# Altium schematic symbol library MS-Electronic.SchLib: 364 symbols (part 3 of 4)
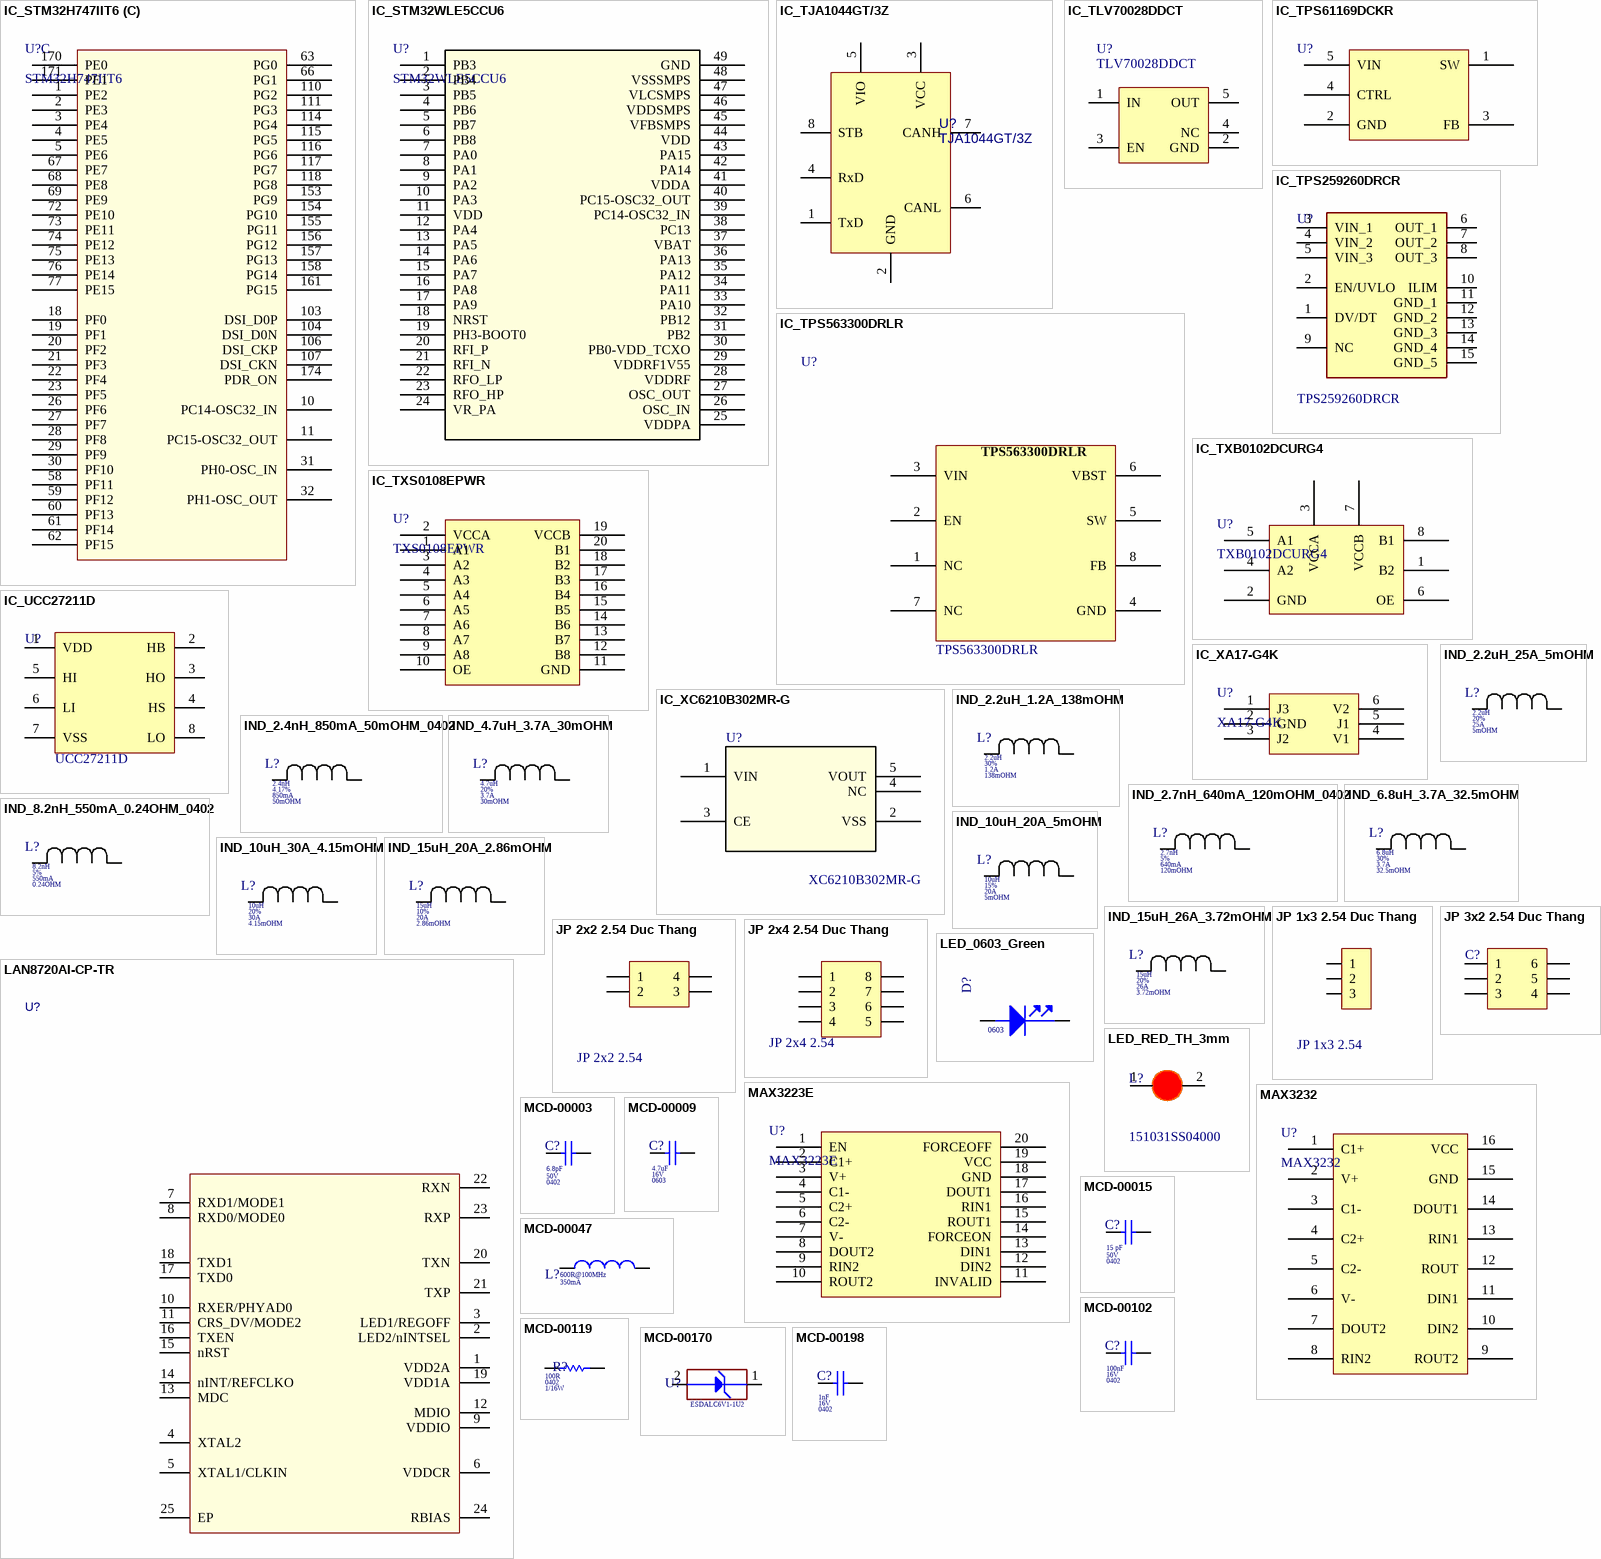
[diagram p13: symbols IC_STM32H747IIT6 to MCD-00198]

## LAN8720AI-CP-TR
designator U?  (value not drawn)
2/2 Transceiver Full MII, RMII 24-SQFN (4x4); Manufacturer: SMSC; Manufacturer Part Number: LAN8720AI-CP-TR; LCSC Part Number: C17146; Package: QFN-24_4x4x05P; ComponentLink1Description: CXT; ComponentLink1URL: https://linhkien.cxtvn.com/1660-lan8720ai-cp-tr-ic-transceiver-full-22-24sqfn.html; ComponentLink2Description: DIGIKEY; ComponentLink2URL: https://www.digikey.bg/en/products/detail/microchip-technology/LAN8720AI-CP-TR/3872110; Sort: TRANSCEIVER
footprint IC_LAN8720AI-CP-TR
pins: 1 VDD2A, 2 LED2/nINTSEL, 3 LED1/REGOFF, 4 XTAL2, 5 XTAL1/CLKIN, 6 VDDCR, 7 RXD1/MODE1, 8 RXD0/MODE0, 9 VDDIO, 10 RXER/PHYAD0, 11 CRS_DV/MODE2, 12 MDIO, 13 MDC, 14 nINT/REFCLKO, 15 nRST, 16 TXEN, 17 TXD0, 18 TXD1, 19 VDD1A, 20 TXN, 21 TXP, 22 RXN, 23 RXP, 24 RBIAS, 25 EP

## LED_0603_Green
designator D?, comment Package: 0603  (hidden comment: 150060GS75000)
LED YELLOW/GREEN CLEAR 0603 SMD; Manufacturer: Würth Elektronik; Manufacturer Part Number: 150060GS75000; ComponentLink1Description: BLK; ComponentLink1URL: https://banlinhkien.com/led-0603-mau-xanh-la-green-10-chiec-p22456389.html; ComponentLink2Description: DIGIKEY; ComponentLink2URL: https://www.digikey.bg/en/products/detail/w%C3%BCrth-elektronik/150060GS75000/4489898
footprint LED_0603_GREEN
pins: 1 cathode, 2 ANODE

## LED_RED_TH_3mm
designator L?, comment 151031SS04000
Red 635nm LED Indication - Discrete 2V Radial; Manufacturer: Würth Elektronik; Current - Test: 20mA; Ten_Linh_Kien: Led 3MM Phủ Đỏ (10c); Part Number: 151031SS04000; Voltage - Forward: 2V; Package: 3mm; ComponentLink1Description: New link; ComponentLink1URL: *; ComponentLink2Description: DIGIKEY; ComponentLink2URL: https://www.digikey.bg/en/products/detail/w%C3%BCrth-elektronik/151031SS04000/4489979
footprint LED-3MM-RED
pins: 1 A, 2 K

## MAX3223E
designator U?
3- to 5.5-V dual channel 500kbps RS-232 line driver/receiver with +/-15-kV IEC-ESD protection; Sort: IC TRANSCEIVER; Package: SOIC; ComponentLink1Description: DIGIKEY; ComponentLink1URL: https://www.digikey.bg/en/products/detail/texas-instruments/MAX3223EIPWR/1120535
footprint MAX3223E_SOIC
pins: 1 EN, 2 C1+, 3 V+, 4 C1-, 5 C2+, 6 C2-, 7 V-, 8 DOUT2, 9 RIN2, 10 ROUT2, 11 INVALID, 12 DIN2, 13 DIN1, 14 FORCEON, 15 ROUT1, 16 RIN1, 17 DOUT1, 18 GND, 19 VCC, 20 FORCEOFF

## MAX3232
designator U?
3-V to 5.5-V Multichannel RS-232 Line Driver and Receiver / With ±15-kV ESD Protection; Sort: IC TRANSCEIVER; ComponentLink1Description: New link; ComponentLink1URL: https://banlinhkien.com/max232-sop16-p6648577.html; Package: SOP16
footprint MAX232_SOP16
pins: 1 C1+, 2 V+, 3 C1-, 4 C2+, 5 C2-, 6 V-, 7 DOUT2, 8 RIN2, 9 ROUT2, 10 DIN2, 11 DIN1, 12 ROUT, 13 RIN1, 14 DOUT1, 15 GND, 16 VCC

## MCD-00003
designator C?, comment value 6.8pF  Package: 0402  Voltage: 50V  (hidden comment: Capacitor)
Capacitor, MLCC, 6.8pF, 50V, NPO, +-0.1pF, 0402, T=0.5mm; Manufacturer_Part_Number: GRM1555C1H6R8BA01; Manufacturer: MURATA
footprint CAPC1005X06N (Chip Capacitor, 2-Leads, Body 1.00x0.50x0.60mm (0402))
pins: 1, 2

## MCD-00009
designator C?  value 4.7uF  Package: 0603  Voltage: 16V
Capacitor, MLCC, 4.7uF, 16V, X5R, 10%, 0603, T=0.8mm; Manufacturer_Part_Number: CC0603KRX5R7BB475; Manufacturer: YAGEO
footprint CAPC1608X09N (Chip Capacitor, 2-Leads, Body 1.60x0.80x0.90mm (0603))
pins: 1, 2

## MCD-00015
designator C?  value 15 pF  Package: 0402  Voltage: 50V
Condensateurs céramique multicouches MLCC - CMS 0402 3.3pF 50Volts C0G +/-0.05pF; Manufacturer_Part_Number: GJM1555C1H150JB01; Manufacturer: MURATA
footprint CAPC1005X06N (Chip Capacitor, 2-Leads, Body 1.00x0.50x0.60mm (0402))
pins: 1, 2

## MCD-00047
designator L?  value 600R@100MHz  L: 350mA
SMD Chip ferrite bead, 600R@100MHz +/-25%, 350mA, 500mohm DC, 0603, T=0.8mm; Manufacturer_Part_Number: FCM1608KF-601T03; Manufacturer: TAI-TECH
footprint INDC1608X95N (Chip Inductor, 2-Leads, Body 1.75x0.95x0.95mm (0603))
pins: 1, 2

## MCD-00102
designator C?  value 100nF  Voltage: 16V  Package: 0402
Capacitor, MLCC, 100nF, 16V, X7R, 10%, 0402, T=0,5mm; Manufacturer_Part_Number: CC0402KRX7R7BB104; Manufacturer: YAGEO
footprint CAPC1005X06N (Chip Capacitor, 2-Leads, Body 1.00x0.50x0.60mm (0402))
pins: 1, 2

## MCD-00119
designator R?  value 100R  Power: 1/16W  Package: 0402
Resistor,100R,0402,1%,1/16W; Manufacturer_Part_Number: RC0402FR-07100RL; Manufacturer: YAGEO
footprint RESC1005X04N (Chip Resistor, 2-Leads, Body 1.00x0.50mm (0402))
pins: 1, 2

## MCD-00170
designator U?  Manufacturer_Part_Number: ESDALC6V1-1U2
ESD protection 6V1; Manufacturer: STMICROELECTRONICS
footprint DIOM0603X03N (Footprint not found)
pins: 1 IO1, 2 GND

## MCD-00198
designator C?  value 1nF  Voltage: 16V  Package: 0402
Capacitor, MLCC, 1nF, 16V, X7R, 10%, 0402, T=0.5mm; Manufacturer_Part_Number: CC0402KRX7R7BB102; Manufacturer: YAGEO
footprint CAPC1005X06N (Chip Capacitor, 2-Leads, Body 1.00x0.50x0.60mm (0402))
pins: 1, 2

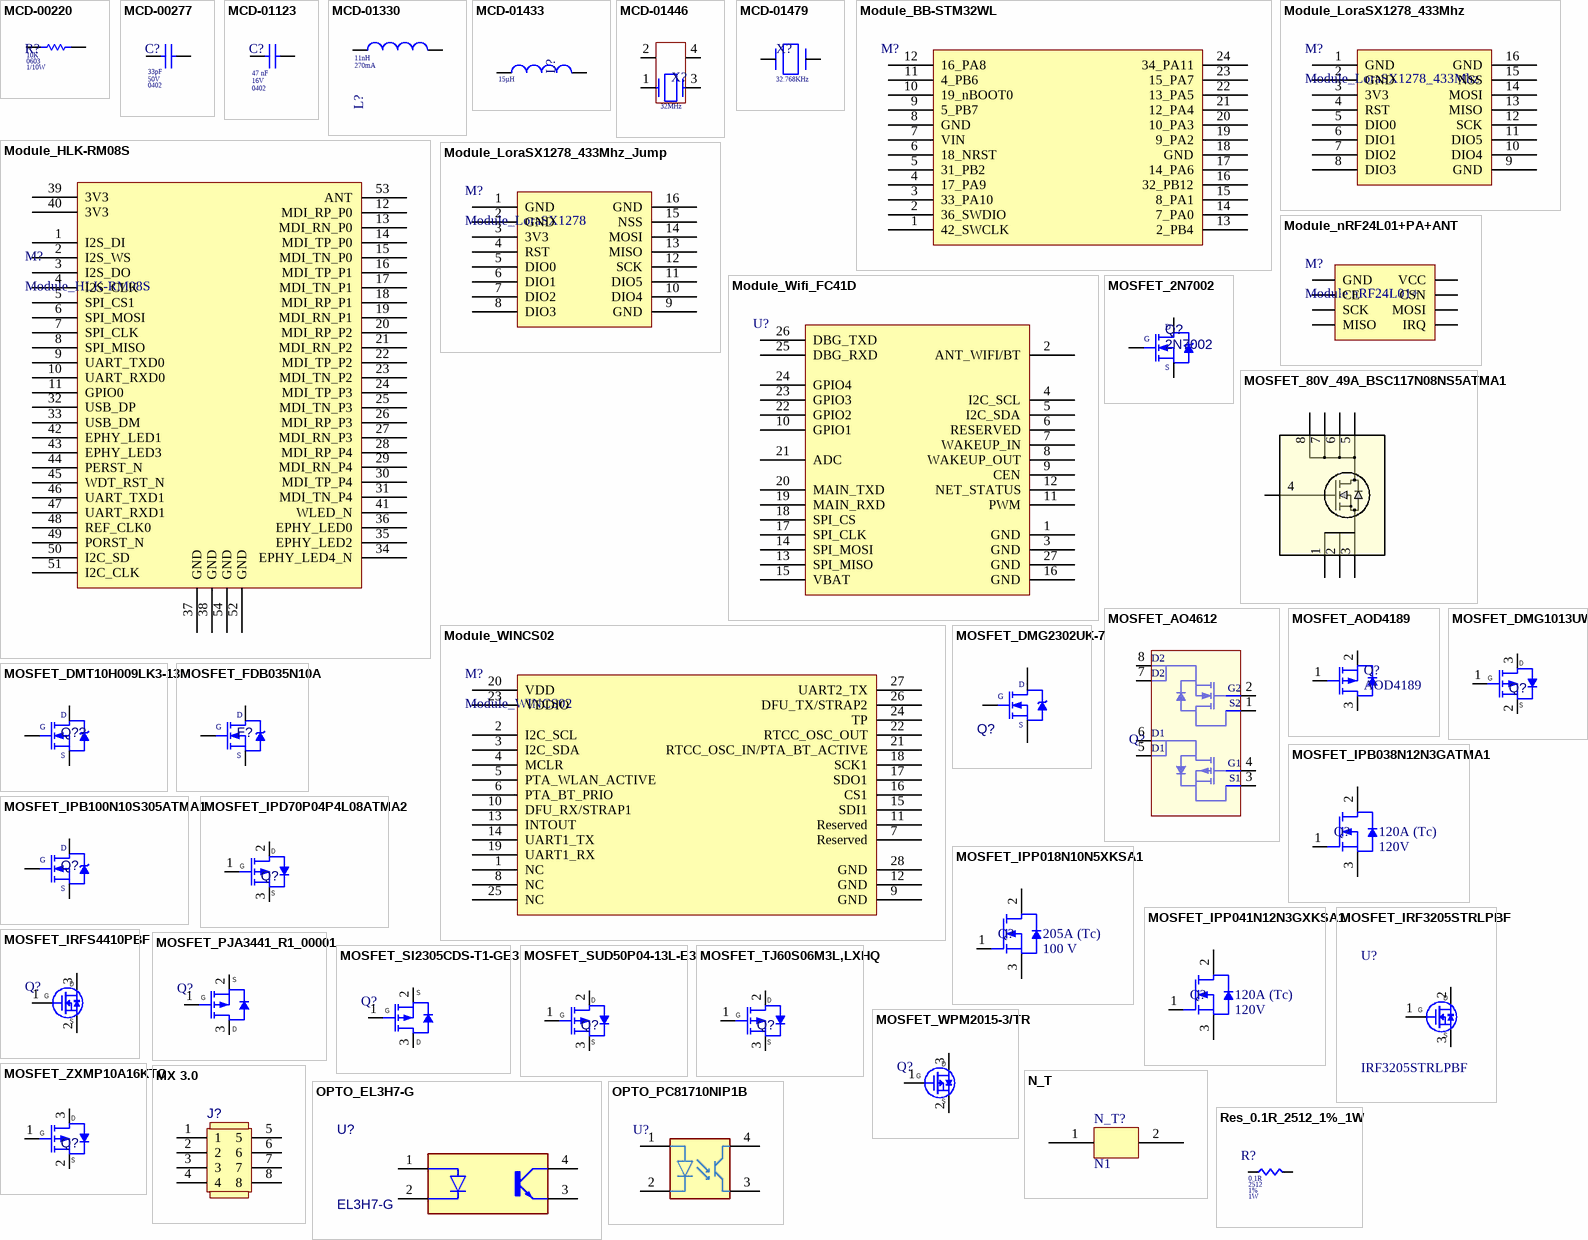
[diagram p7: symbols MCD-00220 to Res_0.1R_2512_1%_1W]

## MCD-00220
designator R?  value 10K  Power: 1/10W  Package: 0603
Resistor,10K,0603,1%,1/10W; Manufacturer_Part_Number: RC0603FR-0710KL; Manufacturer: YAGEO
footprint RESC1608X05N (Chip Resistor, 2-Leads, Body 1.60x0.80mm (0603))
pins: 1, 2

## MCD-00277
designator C?  value 33pF  Voltage: 50V  Package: 0402
Capacitor, MLCC, 33pF, 50V, NPO, 2%, 0402, T=0,5mm; Manufacturer_Part_Number: GRM1555C1H330GA01; Manufacturer: MURATA
footprint CAPC1005X06N (Chip Capacitor, 2-Leads, Body 1.00x0.50x0.60mm (0402))
pins: 1, 2

## MCD-01123
designator C?  value 47 nF  Package: 0402  Voltage: 16V
Capacitor, MLCC,47nF, 16V, X7R, 10%, 0402, T=0.5mm; Manufacturer_Part_Number: GCM155R71E473KA55; Manufacturer: MURATA
footprint CAPC1005X06N (Chip Capacitor, 2-Leads, Body 1.00x0.50x0.60mm (0402))
pins: 1, 2

## MCD-01330
designator L?  value 11nH  L: 270mA
Inductor, 11 nH, +-0.1nH, 270mA, 0402; Manufacturer_Part_Number: LQW15AN11NG00D; Manufacturer: MURATA
footprint IND_MURATA_LQW15A (Inductor 2-Leads,Body 1.10x0.70x0.60mm(max))
pins: 1, 2

## MCD-01433
designator L?, comment value 15µH  (hidden comment: MLZ2012M150W)
MLZ2012 Multilayer Shielded Inductor 15µH, ±5%; Manufacturer: TDK; Manufacturer_Part_Number: MLZ2012M150W
footprint INDC2012X13N (Chip Inductor, 2-Leads, Body 2.0x1.2x1.3 (0805))
pins: 1, 2

## MCD-01446
designator X?  value 32MHz
Crystal 32 MHz, 8pF, -+10 PPM, R=60Ω, SMD; Manufacturer_Part_Number: NX2016SA 32MHz EXS00A-CS06465; Manufacturer: NDK
footprint OSC_NDK_NX2016SA (Crystal, 4-Leads, Body 2.10x1.61x0.50mm (max), Pitch 1.35x1.05mm)
signal-integrity model Guessed Model (IC Model Details Guessed by Setup Helper)
pins: 1, 2, 3, 4

## MCD-01479
designator X?, comment value 32.768KHz  (hidden comment: XTAL_2_PINS)
Crystal 32.768kHz, 6pF, -+20PPM, R=80K, SMD; Manufacturer_Part_Number: NX2012SA 32.768KHz EXS00A-MU00527; Manufacturer: NDK
footprint OSC_NDK_NX2012SA (Crystal, 2-Leads, Body 2.05x1.20x0.55mm (Tol:-/+0.05))
pins: 1 X1, 2 X2

## Module_BB-STM32WL
designator M?  (value not drawn)
ComponentLink1Description: New link; ComponentLink1URL: https://www.digikey.bg/en/products/detail/olimex-ltd/BB-STM32WL-ANT/21662515?s=N4IgTCBcDaIEJwLQGUAqBZAzGA6gGRAF0BfIA; Datasheet: https://www.olimex.com/Products/IoT/LoRa/BB-STM32WL/resources/BB-STM32WL.pdf
footprint Module_BB-STM32WL-ANT
pins: 1 42_SWCLK, 2 36_SWDIO, 3 33_PA10, 4 17_PA9, 5 31_PB2, 6 18_NRST, 7 VIN, 8 GND, 9 5_PB7, 10 19_nBOOT0, 11 4_PB6, 12 16_PA8, 13 2_PB4, 14 7_PA0, 15 8_PA1, 16 32_PB12, 17 14_PA6, 18 GND, 19 9_PA2, 20 10_PA3, 21 12_PA4, 22 13_PA5, 23 15_PA7, 24 34_PA11

## Module_HLK-RM08S
designator M?
SMD,25.8x17.4mm WiFi Modules ROHS; ComponentLink1Description: New link; ComponentLink1URL: https://www.lcsc.com/product-detail/WiFi-Modules_HI-LINK-HLK-RM08S_C209918.html
footprint MODULE_HLK-RM08S
pins: 1 I2S_DI, 2 I2S_WS, 3 I2S_DO, 4 I2S_CLK, 5 SPI_CS1, 6 SPI_MOSI, 7 SPI_CLK, 8 SPI_MISO, 9 UART_TXD0, 10 UART_RXD0, 11 GPIO0, 12 MDI_RP_P0, 13 MDI_RN_P0, 14 MDI_TP_P0, 15 MDI_TN_P0, 16 MDI_TP_P1, 17 MDI_TN_P1, 18 MDI_RP_P1, 19 MDI_RN_P1, 20 MDI_RP_P2, 21 MDI_RN_P2, 22 MDI_TP_P2, 23 MDI_TN_P2, 24 MDI_TP_P3, 25 MDI_TN_P3, 26 MDI_RP_P3, 27 MDI_RN_P3, 28 MDI_RP_P4, 29 MDI_RN_P4, 30 MDI_TP_P4, 31 MDI_TN_P4, 32 USB_DP, 33 USB_DM, 34 EPHY_LED4_N, 35 EPHY_LED2, 36 EPHY_LED0, 37 GND, 38 GND, 39 3V3, 40 3V3, 41 WLED_N, 42 EPHY_LED1, 43 EPHY_LED3, 44 PERST_N, 45 WDT_RST_N, 46 UART_TXD1, 47 UART_RXD1, 48 REF_CLK0, 49 PORST_N, 50 I2C_SD, 51 I2C_CLK, 52 GND, 53 ANT, 54 GND

## Module_LoraSX1278_433Mhz
designator M?
Module RF SPI Lora SX1278 433MHz Ra-02 Ai-Thinker; ComponentLink1Description: CXT; ComponentLink1URL: https://linhkien.cxtvn.com/3446-module-wireless-sx1278-lora-ra-02-433mhz.html
footprint Module_LoraSX1278_433Mhz
pins: 1 GND, 2 GND, 3 3V3, 4 RST, 5 DIO0, 6 DIO1, 7 DIO2, 8 DIO3, 9 GND, 10 DIO4, 11 DIO5, 12 SCK, 13 MISO, 14 MOSI, 15 NSS, 16 GND

## Module_LoraSX1278_433Mhz_Jump
designator M?, comment Module_LoraSX1278
Module RF SPI Lora SX1278 433MHz Ra-02 Ai-Thinker with PCB; ComponentLink1Description: CXT; ComponentLink1URL: https://linhkien.cxtvn.com/11214-sx1278-lora-ra-02-ai-thinker-module-thu-phat-rf-spi-433mhz.html/page-1
footprint Module_LoraSX1278_433Mhz_JUMP
pins: 1 GND, 2 GND, 3 3V3, 4 RST, 5 DIO0, 6 DIO1, 7 DIO2, 8 DIO3, 9 GND, 10 DIO4, 11 DIO5, 12 SCK, 13 MISO, 14 MOSI, 15 NSS, 16 GND

## Module_nRF24L01+PA+ANT
designator M?, comment Module nRF24L01+
ComponentLink1Description: New link; ComponentLink1URL: https://lkcg.vn/mach-thu-phat-rf-nrf24l01-pa-lna-2-4ghz-anten-roi
footprint Module_nRF24L01+PA+ANT
pins: 1 GND, 2 VCC, 3 CE, 4 CSN, 5 SCK, 6 MOSI, 7 MISO, 8 IRQ

## Module_Wifi_FC41D
designator U?, comment FC41D  (value not drawn)
Wi-Fi & Bluetooth Module FC41D; ComponentLink1Description: DIGIKEY; ComponentLink1URL: https://www.digikey.com/en/products/detail/quectel/FC41DAHMD/21272527
footprint Module_Wifi_FC41D
pins: 1 GND, 2 ANT_WIFI/BT, 3 GND, 4 I2C_SCL, 5 I2C_SDA, 6 RESERVED, 7 WAKEUP_IN, 8 WAKEUP_OUT, 9 CEN, 10 GPIO1, 11 PWM, 12 NET_STATUS, 13 SPI_MISO, 14 SPI_MOSI, 15 VBAT, 16 GND, 17 SPI_CLK, 18 SPI_CS, 19 MAIN_RXD, 20 MAIN_TXD, 21 ADC, 22 GPIO2, 23 GPIO3, 24 GPIO4, 25 DBG_RXD, 26 DBG_TXD, 27 GND

## Module_WINCS02
designator M?
WiFi 802.11b/g/n Transceiver Module 2.4GHz Antenna Not Included, U.FL Surface Mount; ComponentLink1Description: New link; ComponentLink1URL: https://www.digikey.com/en/products/detail/microchip-technology/WINCS02UE-I-100/24617252
footprint MODULE_WINCS02UE
pins: 1 NC, 2 I2C_SCL, 3 I2C_SDA, 4 MCLR, 5 PTA_WLAN_ACTIVE, 6 PTA_BT_PRIO, 7 Reserved, 8 NC, 9 GND, 10 DFU_RX/STRAP1, 11 Reserved, 12 GND, 13 INTOUT, 14 UART1_TX, 15 SDI1, 16 CS1, 17 SDO1, 18 SCK1, 19 UART1_RX, 20 VDD, 21 RTCC_OSC_IN/PTA_BT_ACTIVE, 22 RTCC_OSC_OUT, 23 VDDIO, 24 TP, 25 NC, 26 DFU_TX/STRAP2, 27 UART2_TX, 28 GND

## MOSFET_2N7002
designator Q?, comment 2N7002
N-Channel 60 V 115mA (Ta) 200mW (Ta) Surface Mount SOT-23-3; Manufacturer: DIODES INC.; Part Number: 2N7002-7-F; Vdss: 60 V; Rds On (Max) @ Id, Vgs: 7.5Ohm @ 500mA, 10V; Package: SOT23-3; ComponentLink1Description: TGIC; ComponentLink1URL: https://www.thegioiic.com/2n7002-mosfet-kenh-n-60v-115ma-sot-23; ComponentLink2Description: DIGIKEY; ComponentLink2URL: https://www.digikey.bg/en/products/detail/onsemi/2N7002/244345; Id: 115mA; Sort: N-Channel
footprint MOSFET_2N7002_SOT-23-3
pins: 1 G, 2 S, 3 D

## MOSFET_80V_49A_BSC117N08NS5ATMA1
designator Q?, comment BSC117N08NS5ATMA1  (value not drawn)
N-Channel 80 V 49A (Tc) 2.5W (Ta), 50W (Tc) Surface Mount PG-TDSON-8-7; Manufacturer: Infineon; VDS: 80V; ComponentLink1Description: DIGIKEY; ComponentLink1URL: https://www.digikey.com/en/products/detail/infineon-technologies/BSC117N08NS5ATMA1/5959917; Id Max: 49A; Sort: N-Channel; Package: TDSON-8-7; Parameter 1: *
footprint MOSFET_BSC117N08NS5ATMA1
pins: 1, 2, 3, 4, 5, 6, 7, 8

## MOSFET_AO4612
designator Q?, comment AO4612  (value not drawn)
MOSFET N/P-CH 60V 4.5A 8SOIC; Manufacturer: Alpha & Omega Semiconductor Inc.; ComponentLink1Description: LKCL; ComponentLink1URL: https://linhkienchatluong.vn/fets/ao4612-dual-mosfet-np-60v-sop-8-chinh-hang-aos_sp589_ct15568.aspx; Part Number: AO4612; Vds: 60V; Id Max: 4.5A; Sort: N/P-CH; Package: 8-SOIC
footprint AO4612
pins: 1 S2, 2 G2, 3 S1, 4 G1, 5 D1, 6 D1, 7 D2, 8 D2

## MOSFET_AOD4189
designator Q?, comment AOD4189
MOSFET P-CH 100V 3A TO252-3; Manufacturer Part Number: ZXMP10A16KTC; Manufacturer: Diodes Incorporated; Uds: 40V; Id: 40A; ComponentLink1Description: DIGIKEY; ComponentLink1URL: https://www.digikey.com/en/products/detail/alpha-omega-semiconductor-inc/AOD4189/3060900?s=N4IgTCBcDaIIIHkAiAWAjADgJwgLoF8g; Package: TO-252
footprint MOSFET_AOD4189
pins: 1 GATE, 2 SOURCE, 3 DRAIN

## MOSFET_DMG1013UW-7
designator Q?, comment DMG1013UW-7  (value not drawn)
P-Channel 20 V 820mA (Ta) 310mW (Ta) Surface Mount SOT-323; Manufacturer: DIODES INC.; Description SEL: MOSFET P-CH 20V 820MA SOT323; Vdss: 20V; Rds On (Max) @ Id, Vgs: 750mOhm @ 430mA, 4.5V; Gate Charge (Qg) (Max) @ Vgs: 0.622 nC @ 4.5 V; Part Number: DMG1013UW-7; Package: SOT-323; ComponentLink1Description: DIGIKEY; ComponentLink1URL: https://www.digikey.bg/en/products/detail/diodes-incorporated/DMG1013UW-7/2183241?s=N4IgTCBcDaICIFkDiBGADCgzAVQOoFoB2EAXQF8g; Id: 820mA; Sort: P-Channel
footprint MOSFET_DMG1013UW-7_SOT323
pins: 1 GATE, 2 SOURCE, 3 DRAIN
text: D; G; S

## MOSFET_DMG2302UK-7
designator Q?, comment DMG2302UK-7  (value not drawn)
MOSFET N-CH 20V 2.8A SOT23; Manufacturer: DIODE INC.; Sort: N-Channel; Rds On (Max) @ Id, Vgs: 90mOhm @ 3.6A, 4.5V; Qg Max: 2.8 nC @ 10 V; Part Number: DMG2302UK-7; Package: SOT23; Vds: 20V; ComponentLink1Description: New link; ComponentLink1URL: *; Id Max: 2.8A
footprint MOSFET_DMG2302UK-7
pins: 1 G, 2 S, 3 D

## MOSFET_DMT10H009LK3-13
designator Q??, comment DMT10H009LK3-13  (value not drawn)
N-Channel 100 V 90A (Tc) 1.7W (Ta) Surface Mount TO-252 (DPAK); Manufacturer: Diodes Incorporated; Voltage: 100V; Rds On (Max) @ Id, Vgs: 9mOhm @ 20A, 10V; Gate Charge (Qg) (Max) @ Vgs: 20 nC @ 4.5 V; Part Number: DMT10H009LK3-13; Current: 90A; Package: TO-252-3; Type: N-Channel; ComponentLink1Description: DIGIKEY; ComponentLink1URL: https://www.digikey.com/en/products/detail/diodes-incorporated/DMT10H009LK3-13/16547500?s=N4IgTCBcDaICIFkAqBGADACTWgnAGQGkBmAWhSJAF0BfIA
footprint MOSFET_DMT10H009LK3-13
pins: 1 G, 2 D, 3 S

## MOSFET_FDB035N10A
designator F?, comment FDB035N10A  (value not drawn)
N-Channel 100 V 120A (Tc) 333W (Tc) Surface Mount TO-263 (D2PAK); Manufacturer: onsemi; Vds: 100V; Rds On (Max) @ Id, Vgs: 3.5mOhm @ 75A, 10V; Gate Charge (Qg) (Max) @ Vgs: 116 nC @ 10 V; Part Number: FDB035N10A; ComponentLink1Description: DIGIKEY; ComponentLink1URL: https://www.digikey.com/en/products/detail/onsemi/FDB035N10A/2804157?s=N4IgTCBcDaIGIBEBCAGAzAVgHIEYUEEQBdAXyA; Id Max: 120A; Package: TO-263 (D2PAK); Sort: N-Channel
footprint MOSFET_FDB035N10A
pins: 1 G, 2 D, 3 S

## MOSFET_IPB038N12N3GATMA1
designator Q?, comment Current: 120A (Tc)  Voltage: 120V  (hidden comment: IPB038N12N3GATMA1)
MOSFET N-CH 120V 120A D2PAK; Manufacturer: Infineon Technologies; Part Number: IPP041N12N3GXKSA1; Category: MOSFET; Footprint type: TH; Footprint: D2PAK; ComponentLink1Description: DIGIKEY; ComponentLink1URL: https://www.digikey.com/en/products/detail/infineon-technologies/IPB038N12N3GATMA1/2338048
footprint MOSFET_IPB038N12N3GATMA1
pins: 1 G, 2 D, 3 S

## MOSFET_IPB100N10S305ATMA1
designator Q?, comment IPB100N10S305ATMA1  (value not drawn)
MOSFET N-CH 100V 100A TO263-3; Manufacturer: Infineon; Type: N-Channel; Rds On (Max) @ Id, Vgs: 4.8mOhm @ 100A, 10V; Gate Charge (Qg) (Max) @ Vgs: 176 nC @ 10 V; Part Number: IPB100N10S305ATMA1; Voltage: 100V; Current: 100A; Package: TO-263; ComponentLink1Description: LKD; ComponentLink1URL: https://banlinhkiendientu.vn/ipb100n10s3-05-3pn1005-mosfet-kenh-n-to-263/; ComponentLink2Description: DIGIKEY; ComponentLink2URL: https://www.digikey.com/en/products/detail/infineon-technologies/IPB100N10S305ATMA1/2080925
footprint MOSFET_IPB100N10S305ATMA1
pins: 1 G, 2 D, 3 S

## MOSFET_IPD70P04P4L08ATMA2
designator Q?, comment IPD70P04P4L08ATMA2  (value not drawn)
MOSFET P-CH 40V 70A TO252-3; Manufacturer: Infineon Technologies; Sort: P-Channel; Rds On (Max) @ Id, Vgs: 7.8mOhm @ 70A, 10V; Gate Charge (Qg) (Max) @ Vgs: 92 nC @ 10 V; Part Number: IPD70P04P4L08ATMA2; Description SEL: MOSFET P-CH 40V 70A TO252-3; Package: TO252-3; ComponentLink1Description: DIGIKEY; ComponentLink1URL: https://www.digikey.com/en/products/detail/infineon-technologies/IPD70P04P4L08ATMA2/11657623; Vdss: 40V; Id: 70A
footprint MOSFET_IPD70P04P4L08ATMA2
pins: 1 GATE, 2 DRAIN, 3 SOURCE
text: D; G; S

## MOSFET_IPP018N10N5XKSA1
designator Q?, comment Current: 205A (Tc)  Voltage: 100 V  (hidden comment: IPP018N10N5XKSA1)
MOSFET N-CH 100V 205A TO220-3; Manufacturer: Infineon Technologies; Category: MOSFET; Footprint type: TH; Footprint: TO-220-3; Part Number: IPP018N10N5XKSA1; ComponentLink1Description: DIGIKEY; ComponentLink1URL: https://www.digikey.bg/en/products/detail/infineon-technologies/IPP018N10N5XKSA1/17399187?s=N4IgTCBcDaIJIAUEAYCMAOAcq5mCsAGgNIDKAgqiALoC%2BQA
footprint MOSFET_IPP018N10N5XKSA1
pins: 1 G, 2 D, 3 S

## MOSFET_IPP041N12N3GXKSA1
designator Q?, comment Current: 120A (Tc)  Voltage: 120V  (hidden comment: IPP041N12N3GXKSA1)
MOSFET N-CH 120V 120A TO220-3; Manufacturer: Infineon Technologies; Category: MOSFET; Footprint type: TH; Part Number: IPP041N12N3GXKSA1; Footprint: TO-220-3; ComponentLink1Description: DIGIKEY; ComponentLink1URL: https://www.digikey.com/en/products/detail/infineon-technologies/IPP041N12N3GXKSA1/2338133?s=N4IgTCBcDaIJIAUEAYAsBGAcusmDMA4gBoDSAygILogC6AvkA
footprint MOSFET_IPP041N12N3GXKSA1
pins: 1 G, 2 D, 3 S

## MOSFET_IRF3205STRLPBF
designator U?, comment IRF3205STRLPBF
MOSFET N-CH 55V 110A D2PAK; Manufacture: Infineon Technologies; Sort: N-Channel; Rds On (Max) @ Id, Vgs: 8mOhm @ 62A, 10V; Gate Charge (Qg) (Max) @ Vgs: 146 nC @ 10 V; ComponentLink1Description: LKCG; ComponentLink1URL: https://lkcg.vn/linh-kien-irf3205s-dip-to-220; ComponentLink2Description: DIGIKEY; ComponentLink2URL: https://www.digikey.bg/en/products/detail/infineon-technologies/IRF3205STRLPBF/856540; Manufacture Part Number: IRF3205STRLPBF; MSL: 1; Temperature: -40°C ~ 150°C; Vds: 55 V; Id: 110A
footprint MOSFET_IRF3205S
pins: 1 G, 2 D, 3 S

## MOSFET_IRFS4410PBF
designator Q?, comment IRFS4410PBF  (value not drawn)
N-Channel 100 V 88A (Tc) 200W (Tc) Surface Mount D2PAK; Manufacturer: Infineon Technologies; Vdss: 100 V; Rds On (Max) @ Id, Vgs: 10mOhm @ 58A, 10V; Gate Charge (Qg) (Max) @ Vgs: 180 nC @ 10 V; ComponentLink1Description: ICDR; ComponentLink1URL: https://icdayroi.com/irfs4410pbf; ComponentLink2Description: DIGIKEY; ComponentLink2URL: https://www.digikey.bg/en/products/detail/infineon-technologies/IRFS4410PBF/1827971?s=N4IgTCBcDaIJICUBiBlALGgjABgAoCEkACEAXQF8g; Part Number: IRFS4410PBF; Id: 88A; Sort: N-Channel
footprint MOSFET_IRFS4410PBF
pins: 1 G, 2 S, 3 D

## MOSFET_PJA3441_R1_00001
designator Q?, comment PJA3441_R1_00001  (value not drawn)
P-Channel 40 V 3.1A (Ta) 1.25W (Ta) Surface Mount SOT-23; Manufacturer: Panjit International Inc.; Vdss: 40 V; Rds On (Max) @ Id, Vgs: 88mOhm @ 3.1A, 10V; Gate Charge (Qg) (Max) @ Vgs: 6 nC @ 4.5 V; ComponentLink1Description: New link; ComponentLink1URL: https://www.digikey.bg/en/products/detail/panjit-international-inc/PJA3441-R1-00001/14660323; Part Number: PJA3441_R1_00001; Id: 3.1A; Sort: P-Channel; Package: SOT-23
footprint MOSFET_PJA3441_R1_00001
pins: 1 GATE, 2 SOURCE, 3 DRAIN
text: S; G; D

## MOSFET_SI2305CDS-T1-GE3
designator Q?, comment SI2305CDS-T1-GE3  (value not drawn)
P-Channel 8 V 5.8A (Tc) 960mW (Ta), 1.7W (Tc) Surface Mount SOT-23-3 (TO-236); Manufacturer: Vishay Siliconix; Vdss: 8V; Rds On (Max) @ Id, Vgs: 35mOhm @ 4.4A, 4.5V; Gate Charge (Qg) (Max) @ Vgs: 30 nC @ 8 V; ComponentLink1Description: New link; ComponentLink1URL: https://www.digikey.com/en/products/detail/vishay-siliconix/SI2305CDS-T1-GE3/2622024?s=N4IgTCBcDaIMoEkwGYAMBWAwgETgWgBUBGPAcQFFkQBdAXyA; Part Number: SI2305CDS-T1-GE3; Sort: P-Channel; Id: 5.8A; Package: SOT-23-3 (TO-236)
footprint MOSFET_SI2305CDS-T1-GE3
pins: 1 GATE, 2 SOURCE, 3 DRAIN
text: S; G; D

## MOSFET_SUD50P04-13L-E3
designator Q?, comment SUD50P04-13L-E3  (value not drawn)
MOSFET P-CH 40V 60A TO252; Manufacturer: Vishay Siliconix; Sort: P-Channel; Rds On (Max) @ Id, Vgs: 13mOhm @ 30A, 10V; Gate Charge (Qg) (Max) @ Vgs: 95 nC @ 10 V; Part Number: SUD50P04-13L-E3; Description SEL: MOSFET P-CH 40V 60A TO252; Package: SOT-252; ComponentLink1Description: HATECH; ComponentLink1URL: https://linhkienhatech.com/products/linh-kien-mosfet-sud50p04-13l-40v-60a; Vdss: 40V; Id: 60A; ComponentLink2Description: DIGIKEY; ComponentLink2URL: https://www.digikey.com/en/products/detail/vishay-siliconix/SUD50P04-13L-E3/2623070
pins: 1 GATE, 2 DRAIN, 3 SOURCE
text: D; G; S

## MOSFET_TJ60S06M3L,LXHQ
designator Q?, comment TJ60S06M3L,LXHQ  (value not drawn)
MOSFET P-CH 40V 60A TO252; Manufacturer: Toshiba Semiconductor and Storage; Description SEL: MOSFET P-CH 60V 60A DPAK; Vdss: 60V; Sort: P-Channel; Rds On (Max) @ Id, Vgs: 11.2mOhm @ 30A, 10V; Gate Charge (Qg) (Max) @ Vgs: 156 nC @ 10 V; Part Number: TJ60S06M3L,LXHQ; Package: SOT-252; ComponentLink1Description: DIGIKEY; ComponentLink1URL: https://www.digikey.com/en/products/detail/toshiba-semiconductor-and-storage/TJ60S06M3L-LXHQ/12352702; Id: 60A
footprint MOSFET_TJ60S06M3L,LXHQ
pins: 1 GATE, 2 DRAIN, 3 SOURCE
text: D; G; S

## MOSFET_WPM2015-3/TR
designator Q?, comment WPM2015-3/TR  (value not drawn)
20V 2.2A 800mW 110mΩ@4.5V,2.7A 810mV@250uA 1 Piece P-Channel SOT-23 MOSFETs ROHS; Manufacturer: WILLSEMI(Will Semicon); Id: 2.4A; Gate Charge(Qg): 7.3nC@4.5V; ComponentLink1Description: New link; ComponentLink1URL: https://jlcpcb.com/partdetail/WILLSEMI_Will_Semicon-WPM2015_3TR/C213159; Part Number: WPM2015-3/TR; Sort: P-Channel; Vdss: 20V; RDS(on): 110mΩ@4.5V,2.7A; Package: SOT-23
footprint MOSFET_WPM2015-3/TR
pins: 1 G, 2 S, 3 D

## MOSFET_ZXMP10A16KTC
designator Q?, comment ZXMP10A16KTC  (value not drawn)
P-Channel 100 V 3A (Ta) 2.15W (Ta) Surface Mount TO-252-3; Manufacturer: DIODES INC.; Part Number: IRFR9120NTRPBF; Vdss: 100V; Rds On (Max) @ Id, Vgs: 235mOhm @ 2.1A, 10V; Gate Charge (Qg) (Max) @ Vgs: 16.5 nC @ 10 V; Package: To252-3p; ComponentLink1Description: DIGIKEY; ComponentLink1URL: https://www.digikey.bg/en/products/detail/diodes-incorporated/ZXMP10A16KTC/1873878?s=N4IgTCBcDaIFoA0CyAFAjABgIJoGwGkAVAYRAF0BfIA; Sort: P-Channel; Id: 3A
footprint MOSFET_ZXMP10A16KTC
pins: 1 GATE, 2 SOURCE, 3 DRAIN
text: D; G; S

## MX 3.0
designator J?, comment 430450800  (value not drawn)
Part Number: MX 3.0mm; Value: RA/8P; Description SEL: Đầu Nối MX 3.0mm; ComponentLink1Description: CXT; ComponentLink1URL: https://linhkien.cxtvn.com/3373-dau-noi-mx30mm-2-hang-chan-duc-cong.html
footprint 430450800
pins: 1, 2, 3, 4, 5, 6, 7, 8

## N_T
designator N_T?, comment N1  (net tie, no BOM)
footprint NT
pins: 1, 2

## OPTO_EL3H7-G
designator U?, comment EL3H7-G
Optoisolator Transistor Output 3750Vrms 1 Channel 4-SSOP; Part Number: VOS617A-4T; Manufacturer: Everlight Electronics; Description SEL: OPTOISOLATOR 3.75KV TRANS 4-SSOP; Current - Output / Channel: 50mA; Voltage - Output (Max): 80V; Number of Channels: 1; ComponentLink1Description: TGIC; ComponentLink1URL: https://www.thegioiic.com/el3h7-optoisolator-transistor-output-3750vrms-1-channel-4-ssop; ComponentLink2Description: DIGIKEY; ComponentLink2URL: https://www.digikey.com/en/products/detail/everlight-electronics-co-ltd/EL3H7-G/2692941; Package: 4-SSOP
footprint OPTO_EL3H7-G
pins: 1 A, 2 C, 3 E, 4 CO

## OPTO_PC81710NIP1B
designator U?, comment PC81710NIP1B  (value not drawn)
OPTOISOLATOR 5KV 1CH TRANS 4-SMD; Manufacturer: SHARP/Socle Technology; Number of Channels: 1; Voltage - Output (Max): 80V; Current - Output / Channel: 50mA; ComponentLink1Description: BLK; ComponentLink1URL: https://banlinhkien.com/el817-sop4-opto-thay-the-pc817-smd-p6650626.html; ComponentLink2Description: DIGIKEY; ComponentLink2URL: https://www.digikey.com/en/products/detail/sharp-socle-technology/PC81710NIP1B/7798258; Part number: PC81710NIP1B; Package: 4-SMD
footprint PC817
pins: 1 ANODE, 2 CATHODE, 3 EMITTER, 4 COLLECTOR

## Res_0.1R_2512_1%_1W
designator R?, comment value 0.1R  Tolerance: 1%  Power: 1W  Package: 2512  (hidden comment: RL2512FK-070R1L)
RES 0.1 OHM 1% 1W 2512; ComponentLink1Description: CXT; ComponentLink1URL: https://linhkien.cxtvn.com/4866-dien-tro-2512-2w-1w-1-cac-gia-tri-day-5-chiec.html; ComponentLink2Description: DIGIKEY; ComponentLink2URL: https://www.digikey.com/en/products/detail/yageo/RL2512FK-070R1L/2827664?s=N4IgTCBcDaIAQCUAyYCsBGMAxA0gWgAYB2AhdJEAXQF8g
footprint Res_2512
pins: 1, 2

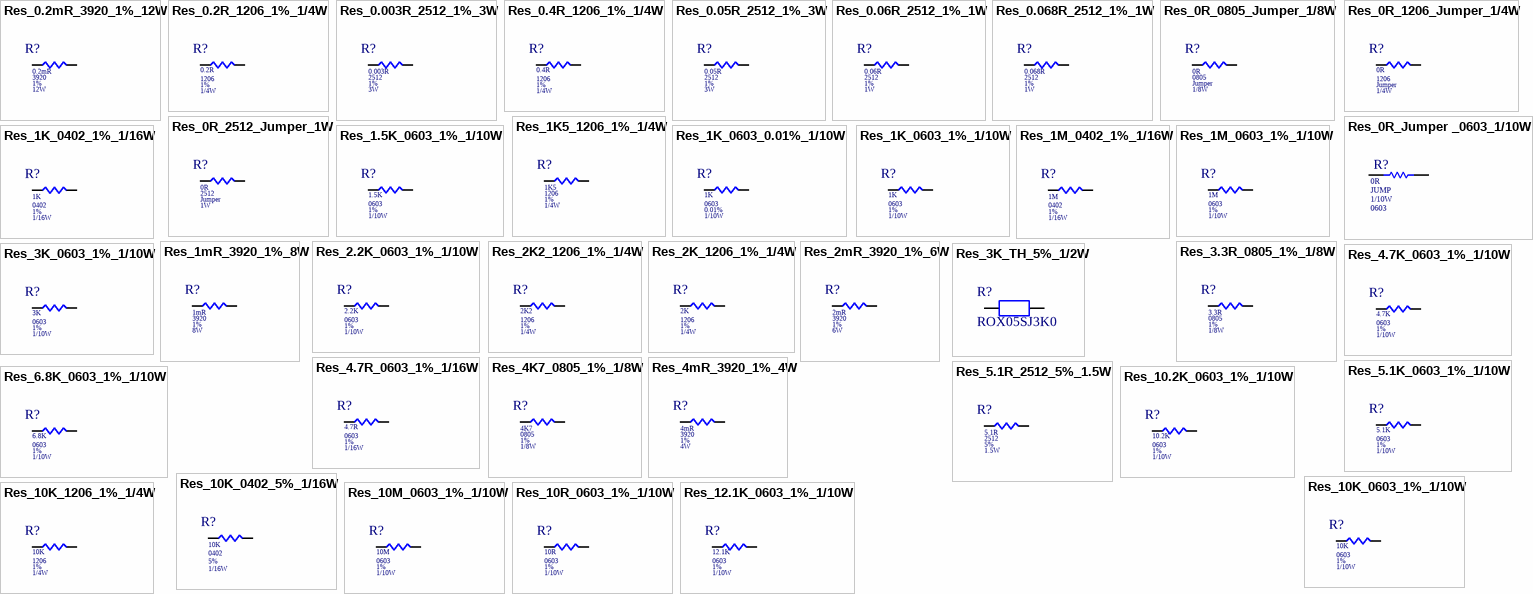
[diagram p8: symbols Res_0.2mR_3920_1%_12W to Res_12.1K_0603_1%_1/10W]

## Res_0.2mR_3920_1%_12W
designator R?, comment value 0.2mR  Tolerance: 1%  Power: 12W  Package: 3920  (hidden comment: CSS2H-3920R-L200FE)
RES SMD 200 UOHM 1% 12W 3920; ComponentLink2Description: DIGIKEY; ComponentLink2URL: https://www.digikey.bg/en/products/detail/bourns-inc/CSS2H-3920R-L200FE/6229288?s=N4IgTCBcDaIMIGUFgBIFoDMBOMAGASmgDJ64BiAoiALoC%2BQA
footprint RES_3920
pins: 1, 2

## Res_0.2R_1206_1%_1/4W
designator R?, comment value 0.2R  Power: 1/4W  Pakage: 1206  Tolerance: 1%  (hidden comment: WSL1206R2000FEB)
RES 0.2 OHM 1% 1/4W 1206; ComponentLink1Description: CXT; ComponentLink1URL: https://linhkien.cxtvn.com/11466-dien-tro-1206-1-thong-so-tu-0r-den-910r.html; ComponentLink2Description: DIGIKEY; ComponentLink2URL: https://www.digikey.com/en/products/detail/vishay-dale/WSL1206R2000FEB/9752677
footprint Res_1206
pins: 1, 2

## Res_0.003R_2512_1%_3W
designator R?, comment value 0.003R  Tolerance: 1%  Power: 3W  Package: 2512  (hidden comment: CRE2512-FZ-R003E-3)
RES 0.003 OHM 1% 3W 2512; ComponentLink1Description: MOUSER; ComponentLink1URL: https://www.mouser.vn/ProductDetail/Bourns/CRE2512-FZ-R003E-3?qs=rpfKl3ntHzPjkfGuk%252BIwsA%3D%3D
footprint Res_2512_3W_CRE2512-FZ-R003E-3
pins: 1, 2

## Res_0.4R_1206_1%_1/4W
designator R?, comment value 0.4R  Power: 1/4W  Pakage: 1206  Tolerance: 1%  (hidden comment: RL1206FR-7W0R4L)
RES 0.4 OHM 1% 1/4W 1206; ComponentLink1Description: MOUSER; ComponentLink1URL: https://www.mouser.vn/ProductDetail/YAGEO/RL1206FR-7W0R4L?qs=k2KEx2DUIRSMzNnaPb%252BF0w%3D%3D
footprint Res_1206
pins: 1, 2

## Res_0.05R_2512_1%_3W
designator R?, comment value 0.05R  Tolerance: 1%  Power: 3W  Package: 2512  (hidden comment: CSNL2512FT50L0)
RES SHUNT; ComponentLink1Description: BLK; ComponentLink1URL: https://banlinhkien.com/tro-2512-1-r0500.05r-1w-p6652906.html; ComponentLink2Description: MOUSER; ComponentLink2URL: https://www.mouser.vn/ProductDetail/SEI-Stackpole/CSNL2512FT50L0?qs=sGAEpiMZZMtlubZbdhIBIGfmJML7fLMV0a2VrvkITSY%3D
footprint Res_2512_3W_CRE2512-FZ-R003E-3
pins: 1, 2

## Res_0.06R_2512_1%_1W
designator R?, comment value 0.06R  Tolerance: 1%  Power: 1W  Package: 2512  (hidden comment: WSL2512R0600FTA)
RES 0.06 OHM 1% 1W 2512; ComponentLink1Description: LKD; ComponentLink1URL: https://banlinhkiendientu.vn/dien-tro-dan-2512-0-06r-r060-1w-5-day-10-chiec/; ComponentLink2Description: MOUSER; ComponentLink2URL: https://www.mouser.vn/ProductDetail/Vishay-Dale/WSL2512R0600FTA?qs=sGAEpiMZZMtlubZbdhIBIP4I6VbLjUQp2ZxSdqk9lEU%3D
footprint Res_2512_3W_CRE2512-FZ-R003E-3
pins: 1, 2

## Res_0.068R_2512_1%_1W
designator R?, comment value 0.068R  Tolerance: 1%  Power: 1W  Package: 2512  (hidden comment: RL2512FK-070R068L)
RES 0.068 OHM 1% 1W 2512; ComponentLink1Description: DIGIKEY; ComponentLink1URL: https://www.digikey.com/en/products/detail/yageo/RL2512FK-070R068L/3885856
footprint Res_2512
pins: 1, 2

## Res_0R_0805_Jumper_1/8W
designator R?, comment value 0R  Tolerance: Jumper  Power: 1/8W  Package: 0805  (hidden comment: RC0805JR-070RL)
RES 0 OHM JUMPER 1/8W 0805; ComponentLink1Description: CXT; ComponentLink1URL: https://linhkien.cxtvn.com/2899-dien-tro-0805-1-thong-so-tu-0r-den-910r.html; ComponentLink2Description: DIGIKEY; ComponentLink2URL: https://www.digikey.com/en/products/detail/yageo/RC0805JR-070RL/728216
footprint Res_0805
pins: 1, 2

## Res_0R_1206_Jumper_1/4W
designator R?, comment value 0R  Power: 1/4W  Pakage: 1206  Tolerance: Jumper  (hidden comment: RC1206JR-070RL)
RES 0 OHM JUMPER 1/4W 1206; ComponentLink1Description: CXT; ComponentLink1URL: https://linhkien.cxtvn.com/3667-dien-tro-1206-1-thong-so-tu-0r-den-910r.html; ComponentLink2Description: DIGIKEY; ComponentLink2URL: https://www.digikey.com/en/products/detail/yageo/RC1206JR-070RL/729184
footprint Res_1206
pins: 1, 2

## Res_0R_2512_Jumper_1W
designator R?, comment value 0R  Tolerance: Jumper  Power: 1W  Package: 2512  (hidden comment: CR2512AJ/-000EAS)
RESA-AS 2512 0R JUMPER 1W; ComponentLink1Description: DIGIKEY; ComponentLink1URL: https://www.digikey.bg/en/products/detail/bourns-inc/CR2512AJ-000EAS/10240145?s=N4IgTCBcDaIE4FMDOACADHFYCsBGCAugL5A; ComponentLink2Description: LKD; ComponentLink2URL: https://banlinhkiendientu.vn/dien-tro-dan-2512-0r-r00-1w-5-day-10-chiec/
footprint Res_2512_3W_CRE2512-FZ-R003E-3
pins: 1, 2

## Res_0R_Jumper _0603_1/10W
designator R?, comment Resistance: 0R  Tolerance: JUMP  Power: 1/10W  Package: 0603  (hidden comment: RC0603JR-070RL)
RES 0 OHM JUMPER 1/10W 0603; Manufacture 1: YAGEOWalsin Technology Corporation; Mouting Type: SMD; Temp Coef: ±100ppm/°C; Manufacture Part Number 1: RC0603JR-070RL; MSL: 1; Temperature: -55°C ~ 155°C; Type: RES; ComponentLink1Description: CXT; ComponentLink1URL: https://linhkien.cxtvn.com/3833-dien-tro-0603-1-thong-so-tu-0r-den-910r.html; ComponentLink2Description: DIGIKEY; ComponentLink2URL: https://www.digikey.com/en/products/detail/yageo/RC0603JR-070RL/726675
footprint RESC1608X05N (Chip Resistor, 2-Leads, Body 1.60x0.80mm (0603))
pins: 1, 2

## Res_1.5K_0603_1%_1/10W
designator R?, comment value 1.5K  Power: 1/10W  Package: 0603  Tolerance: 1%  (hidden comment: 0603WAF1501T5E)
RES 1.5K OHM 1% 1/10W 0603; ComponentLink1Description: CXT; ComponentLink1URL: https://linhkien.cxtvn.com/5005-dien-tro-0603-1-thong-so-tu-1k-den-91k.html; ComponentLink2Description: DIGIKEY; ComponentLink2URL: https://www.mouser.vn/ProductDetail/Royalohm/0603WAF1501T5E?qs=e8oIoAS2J1TWOCRo0oO1xg%3D%3D
footprint RESC1608X05N (Chip Resistor, 2-Leads, Body 1.60x0.80mm (0603))
pins: 1, 2

## Res_1K5_1206_1%_1/4W
designator R?, comment value 1K5  Tolerance: 1%  Power: 1/4W  Package: 1206  (hidden comment: CRGCQ1206F1K5)
RES 1.5K OHM 1% 1/4W 1206; ComponentLink2Description: CXT; ComponentLink2URL: https://linhkien.cxtvn.com/3351-dien-tro-1206-5-thong-so-tu-1k-den-91k.html; ComponentLink3Description: DIGIKEY; ComponentLink3URL: https://www.digikey.bg/en/products/detail/te-connectivity-passive-product/CRGCQ1206F1K5/8576414
footprint Res_1206
pins: 1, 2

## Res_1K_0402_1%_1/16W
designator R?, comment value 1K  Power: 1/16W  Tolerance: 1%  Pakage: 0402  (hidden comment: RC0402FR-071KL)
RES 1K OHM 1% 1/16W 0402; ComponentLink1Description: CXT; ComponentLink1URL: https://linhkien.cxtvn.com/3454-dien-tro-0402-1-thong-so-tu-1k-den-91k.html; ComponentLink2Description: DIGIKEY; ComponentLink2URL: https://www.digikey.bg/en/products/detail/yageo/RC0402FR-071KL/726513?s=N4IgTCBcDaIEoGEAMAWJYBicC0SDsAjANIAyIAugL5A
footprint RES_0402
pins: 1, 2

## Res_1K_0603_0.01%_1/10W
designator R?, comment value 1K  Power: 1/10W  Pakage: 0603  Tolerance: 0.01%  (hidden comment: RNCF0603TKY1K00)
RES SMD 1K OHM 0.01% 1/10W 0603; ComponentLink1Description: DIGIKEY; ComponentLink1URL: https://www.digikey.bg/en/products/detail/stackpole-electronics-inc/RNCF0603TKY1K00/2269697?s=N4IgTCBcDaIEoDkDCAxADANjQZgCoGkBNARnzTRAF0BfIA
footprint RESC1608X05N (Chip Resistor, 2-Leads, Body 1.60x0.80mm (0603))
pins: 1, 2

## Res_1K_0603_1%_1/10W
designator R?, comment value 1K  Power: 1/10W  Pakage: 0603  Tolerance: 1%  (hidden comment: RC0603FR-071KL)
RES 1K OHM 1% 1/10W 0603; ComponentLink1Description: New link; ComponentLink1URL: https://linhkien.cxtvn.com/1424-dien-tro-0603-1-thong-so-tu-1k-den-91k.html; ComponentLink2Description: New link 1; ComponentLink2URL: https://www.digikey.bg/en/products/detail/yageo/RC0603FR-071KL/726843
footprint RESC1608X05N (Chip Resistor, 2-Leads, Body 1.60x0.80mm (0603))
pins: 1, 2

## Res_1M_0402_1%_1/16W
designator R?, comment value 1M  Power: 1/16W  Tolerance: 1%  Pakage: 0402  (hidden comment: RC0402FR-071ML)
RES 1M OHM 1% 1/16W 0402; ComponentLink1Description: CXT; ComponentLink1URL: https://linhkien.cxtvn.com/2940-dien-tro-0402-1-thong-so-tu-1m-den-10m.html; ComponentLink2Description: DIGIKEY; ComponentLink2URL: https://www.digikey.bg/en/products/detail/yageo/RC0402FR-071ML/726515
footprint RES_0402
pins: 1, 2

## Res_1M_0603_1%_1/10W
designator R?, comment value 1M  Power: 1/10W  Pakage: 0603  Tolerance: 1%  (hidden comment: RC0603FR-071ML)
RES 1M OHM 1% 1/10W 0603; ComponentLink1Description: CXT; ComponentLink1URL: https://linhkien.cxtvn.com/2390-dien-tro-0603-1-thong-so-tu-1m-den-10m.html; ComponentLink2Description: DIGIKEY; ComponentLink2URL: https://www.digikey.com/en/products/detail/yageo/RC0603FR-071ML/726844
footprint RESC1608X05N (Chip Resistor, 2-Leads, Body 1.60x0.80mm (0603))
pins: 1, 2

## Res_1mR_3920_1%_8W
designator R?, comment value 1mR  Tolerance: 1%  Power: 8W  Package: 3920  (hidden comment: CSS2H-3920R-1L00FE)
RES 0.001 OHM 1% 8W 3920; ComponentLink2Description: DIGIKEY; ComponentLink2URL: https://www.digikey.com/en/products/detail/bourns-inc/CSS2H-3920R-1L00FE/6229290?s=N4IgTCBcDaIMIGUFgBIFoDMBOMAGASmgIwAyuuAZgKYgC6AvkA
footprint RES_3920
pins: 1, 2

## Res_2.2K_0603_1%_1/10W
designator R?, comment value 2.2K  Power: 1/10W  Pakage: 0603  Tolerance: 1%  (hidden comment: RMCF0603FT2K20)
RES 2.2K OHM 1% 1/10W 0603; ComponentLink1Description: CXT; ComponentLink1URL: https://linhkien.cxtvn.com/3649-dien-tro-0603-1-thong-so-tu-1k-den-91k.html; ComponentLink2Description: DIGIKEY; ComponentLink2URL: https://www.digikey.com/en/products/detail/stackpole-electronics-inc/RMCF0603FT2K20/1760987
footprint RESC1608X05N (Chip Resistor, 2-Leads, Body 1.60x0.80mm (0603))
pins: 1, 2

## Res_2K2_1206_1%_1/4W
designator R?, comment value 2K2  Power: 1/4W  Pakage: 1206  Tolerance: 1%  (hidden comment: RMCF1206FT2K20)
RES 2.2K OHM 1% 1/4W 1206; ComponentLink1Description: CXT; ComponentLink1URL: https://linhkien.cxtvn.com/4144-dien-tro-1206-1-thong-so-tu-1k-den-910k.html; ComponentLink2Description: DIGIKEY; ComponentLink2URL: https://www.digikey.bg/en/products/detail/stackpole-electronics-inc/RMCF1206FT2K20/1759713
footprint Res_1206
pins: 1, 2

## Res_2K_1206_1%_1/4W
designator R?, comment value 2K  Power: 1/4W  Pakage: 1206  Tolerance: 1%  (hidden comment: RMCF1206FT2K00)
RES 2K OHM 1% 1/4W 1206; ComponentLink1Description: CXT; ComponentLink1URL: https://linhkien.cxtvn.com/3352-dien-tro-1206-5-thong-so-tu-1k-den-91k.html; ComponentLink2Description: DIGIKEY; ComponentLink2URL: https://www.digikey.bg/en/products/detail/stackpole-electronics-inc/RMCF1206FT2K00/1759723
footprint Res_1206
pins: 1, 2

## Res_2mR_3920_1%_6W
designator R?, comment value 2mR  Tolerance: 1%  Power: 6W  Package: 3920  (hidden comment: CSS2H-3920K-2L00FE)
RES 0.002 OHM 1% 6W 3920; ComponentLink2Description: DIGIKEY; ComponentLink2URL: https://www.digikey.com/en/products/detail/bourns-inc/CSS2H-3920K-2L00FE/6229291?s=N4IgTCBcDaIMIGUFgBIFoDMBOMAGA0mmADK64BmApiALoC%2BQA
footprint RES_3920
pins: 1, 2

## Res_3.3R_0805_1%_1/8W
designator R?, comment value 3.3R  Tolerance: 1%  Power: 1/8W  Package: 0805  (hidden comment: ERJ-6RQF3R3V)
RES 3.3 OHM 1% 1/8W 0805; ComponentLink1Description: BLK; ComponentLink1URL: https://banlinhkien.com/tro-0805-1-3.3r-50c-p6650101.html; ComponentLink2Description: DIGIKEY; ComponentLink2URL: https://www.digikey.com/en/products/detail/panasonic-electronic-components/ERJ-6RQF3R3V/250178?s=N4IgTCBcDaIKICUBSBaAbAgigMQMwNwDUQBdAXyA
footprint Res_0805
pins: 1, 2

## Res_3K_0603_1%_1/10W
designator R?, comment value 3K  Power: 1/10W  Pakage: 0603  Tolerance: 1%  (hidden comment: RMCF0603FT3K00)
RES 3K OHM 1% 1/10W 0603; ComponentLink1Description: LKCL; ComponentLink1URL: https://linhkienchatluong.vn/dien-tro-dan-0603-116w-1/dien-tro-dan-0603-3k-1-50c_sp836_ct11748.aspx; ComponentLink2Description: DIGIKEY; ComponentLink2URL: https://www.digikey.bg/en/products/detail/stackpole-electronics-inc/RMCF0603FT3K00/1713988
footprint RESC1608X05N (Chip Resistor, 2-Leads, Body 1.60x0.80mm (0603))
pins: 1, 2

## Res_3K_TH_5%_1/2W
designator R?, comment ROX05SJ3K0
RES 3K OHM 5% 1/2W AXIAL; Manufacturer: TE Connectivity Passive Product; Part Number: ROX05SJ3K0; Value: 3K; Tolerance: 5%; Power: 1/2W; Dimension: 2.50mm x 7.50mm; ComponentLink1Description: New link; ComponentLink1URL: *; ComponentLink2Description: DIGIKEY; ComponentLink2URL: https://www.digikey.bg/en/products/detail/te-connectivity-passive-product/ROX05SJ3K0/9926141
footprint RES_TH_1/2W
pins: 1, 2

## Res_4.7K_0603_1%_1/10W
designator R?, comment value 4.7K  Power: 1/10W  Pakage: 0603  Tolerance: 1%  (hidden comment: RC0603FR-074K7L)
RES 4.7K OHM 1% 1/10W 0603; ComponentLink1Description: CXT; ComponentLink1URL: https://linhkien.cxtvn.com/2398-dien-tro-0603-1-thong-so-tu-1k-den-91k.html; ComponentLink2Description: DIGIKEY; ComponentLink2URL: https://www.digikey.com/en/products/detail/yageo/RC0603FR-074K7L/727212
footprint RESC1608X05N (Chip Resistor, 2-Leads, Body 1.60x0.80mm (0603))
pins: 1, 2

## Res_4.7R_0603_1%_1/16W
designator R?, comment value 4.7R  Power: 1/16W  Pakage: 0603  Tolerance: 1%  (hidden comment: RN73G1JTD4R70D)
RES SMD_4.7R_0.5%_1/16W, 0.625W; ComponentLink1Description: CXT; ComponentLink1URL: https://linhkien.cxtvn.com/2259-dien-tro-0603-1-thong-so-tu-0r-den-910r.html; ComponentLink2Description: DIGIKEY; ComponentLink2URL: https://www.digikey.com/en/products/detail/meritek/RN73G1JTD4R70D/16549473?s=N4IgTCBcDaIEoFEDKACALAOgOxxQBgDY8BmEAXQF8g
footprint RESC1608X05N (Chip Resistor, 2-Leads, Body 1.60x0.80mm (0603))
pins: 1, 2

## Res_4K7_0805_1%_1/8W
designator R?, comment value 4K7  Tolerance: 1%  Power: 1/8W  Package: 0805  (hidden comment: CRCW08054K70FKEAC)
RES 4.7K OHM 1% 1/8W 0805; ComponentLink1Description: CXT; ComponentLink1URL: https://linhkien.cxtvn.com/2349-dien-tro-0805-1-thong-so-tu-1k-den-91k.html; ComponentLink2Description: DIGIKEY; ComponentLink2URL: https://www.digikey.com/en/products/detail/vishay-dale/CRCW08054K70FKEAC/7928553
footprint Res_0805
pins: 1, 2

## Res_4mR_3920_1%_4W
designator R?, comment value 4mR  Tolerance: 1%  Power: 4W  Package: 3920  (hidden comment: CSS2H-3920K-4L00F)
CURRENTSENSESHUNT 3920 R004 1% 4; ComponentLink2Description: DIGIKEY
footprint RES_3920
pins: 1, 2

## Res_5.1K_0603_1%_1/10W
designator R?, comment value 5.1K  Power: 1/10W  Pakage: 0603  Tolerance: 1%  (hidden comment: RMCF0603FT5K10)
RES 5.1K OHM 1% 1/10W 0603; ComponentLink1Description: CXT; ComponentLink1URL: https://linhkien.cxtvn.com/2291-dien-tro-0603-1-thong-so-tu-1k-den-91k.html; ComponentLink2Description: DIGIKEY; ComponentLink2URL: https://www.digikey.bg/en/products/detail/stackpole-electronics-inc/RMCF0603FT5K10/1760908?s=N4IgTCBcDaIEoFkDCAxADANjQZhQFQFYBpARjRAF0BfIA
footprint RESC1608X05N (Chip Resistor, 2-Leads, Body 1.60x0.80mm (0603))
pins: 1, 2

## Res_5.1R_2512_5%_1.5W
designator R?, comment value 5.1R  Tolerance: 5%  Power: 1.5W  Package: 2512  (hidden comment: CRCW25125R10JNEHHP)
RES SMD 5.1 OHM 5% 1.5W 2512; ComponentLink1Description: LKCL; ComponentLink1URL: https://linhkienchatluong.vn/dien-tro-dan-2512-1w/dien-tro-dan-2512-51r-1w-5-10c_sp839_ct6156.aspx; ComponentLink2Description: DIGIKEY; ComponentLink2URL: https://www.digikey.bg/en/products/detail/vishay-dale/CRCW25125R10JNEHHP/5079493
footprint Res_2512_3W_CRE2512-FZ-R003E-3
pins: 1, 2

## Res_6.8K_0603_1%_1/10W
designator R?, comment value 6.8K  Power: 1/10W  Pakage: 0603  Tolerance: 1%  (hidden comment: RC0603FR-106K8L)
RES 6.8K OHM 1% 1/10W 0603; ComponentLink1Description: CXT; ComponentLink1URL: https://linhkien.cxtvn.com/5034-dien-tro-0603-1-thong-so-tu-1k-den-91k.html; ComponentLink2Description: DIGIKEY; ComponentLink2URL: https://www.digikey.bg/en/products/detail/yageo/RC0603FR-106K8L/14008237
footprint RESC1608X05N (Chip Resistor, 2-Leads, Body 1.60x0.80mm (0603))
pins: 1, 2

## Res_10.2K_0603_1%_1/10W
designator R?, comment value 10.2K  Power: 1/10W  Package: 0603  Tolerance: 1%  (hidden comment: RC0603FR-1310K2L)
RES 10.2K OHM 1% 1/10W 0603; ComponentLink1Description: CXT; ComponentLink1URL: https://linhkien.cxtvn.com/4622-dien-tro-0603-1-thong-so-tu-1k-den-91k.html; ComponentLink2Description: DIGIKEY; ComponentLink2URL: https://www.digikey.bg/en/products/detail/yageo/RC0603FR-07560RL/727304
footprint RESC1608X05N (Chip Resistor, 2-Leads, Body 1.60x0.80mm (0603))
pins: 1, 2

## Res_10K_0402_5%_1/16W
designator R?, comment value 10K  Power: 1/16W  Tolerance: 5%  Pakage: 0402  (hidden comment: RC0402JR-0710KL)
RES 10K OHM 5% 1/16W 0402; ComponentLink1Description: CXT; ComponentLink1URL: https://linhkien.cxtvn.com/2824-dien-tro-10k-0402-5-50c.html; ComponentLink2Description: DIGIKEY; ComponentLink2URL: https://www.digikey.com/en/products/detail/yageo/RC0402JR-0710KL/726418
footprint RES_0402
pins: 1, 2

## Res_10K_0603_1%_1/10W
designator R?, comment value 10K  Power: 1/10W  Package: 0603  Tolerance: 1%  (hidden comment: RC0603FR-0710KL)
RES 10K OHM 1% 1/10W 0603; ComponentLink1Description: CXT; ComponentLink1URL: https://linhkien.cxtvn.com/1422-dien-tro-0603-1-thong-so-tu-1k-den-91k.html; ComponentLink2Description: DIGIKEY; ComponentLink2URL: https://www.digikey.com/en/products/detail/yageo/RC0603FR-0710KL/726880?s=N4IgTCBcDaIEoGEAMA2JBmAYnAtEg7AIxIDSAMiALoC%2BQA
footprint RESC1608X05N (Chip Resistor, 2-Leads, Body 1.60x0.80mm (0603))
pins: 1, 2

## Res_10K_1206_1%_1/4W
designator R?, comment value 10K  Power: 1/4W  Pakage: 1206  Tolerance: 1%  (hidden comment: RC1206FR-0710KL)
RES 10K OHM 1% 1/4W 1206; ComponentLink1Description: CXT; ComponentLink1URL: https://linhkien.cxtvn.com/2656-dien-tro-1206-1-thong-so-tu-1k-den-910k.html; ComponentLink2Description: DIGIKEY; ComponentLink2URL: https://www.digikey.bg/en/products/detail/yageo/RC1206FR-0710KL/728483
footprint Res_1206
pins: 1, 2

## Res_10M_0603_1%_1/10W
designator R?, comment value 10M  Power: 1/10W  Pakage: 0603  Tolerance: 1%  (hidden comment: WR06W1005FTL)
RES 10M OHM 1% 1/10W 0603; ComponentLink1Description: LKCL; ComponentLink1URL: https://linhkienchatluong.vn/dien-tro-dan-0603-116w-1/dien-tro-dan-0603-10m-1-01f-50c_sp836_ct8446.aspx; ComponentLink2Description: DIGIKEY; ComponentLink2URL: https://www.digikey.bg/en/products/detail/walsin-technology-corporation/WR06W1005FTL/13243162?s=N4IgTCBcDaIOoCUAMA2OBGJSCsAxAKgDIgC6AvkA
footprint RESC1608X05N (Chip Resistor, 2-Leads, Body 1.60x0.80mm (0603))
pins: 1, 2

## Res_10R_0603_1%_1/10W
designator R?, comment value 10R  Power: 1/10W  Pakage: 0603  Tolerance: 1%  (hidden comment: RMCF0603FT10R0)
RES 10 OHM 1% 1/10W 0603; ComponentLink1Description: CXT; ComponentLink1URL: https://linhkien.cxtvn.com/2391-dien-tro-0603-1-thong-so-tu-0r-den-910r.html; ComponentLink2Description: DIGIKEY; ComponentLink2URL: https://www.digikey.com/en/products/detail/stackpole-electronics-inc/RMCF0603FT10R0/1761152
footprint RESC1608X05N (Chip Resistor, 2-Leads, Body 1.60x0.80mm (0603))
pins: 1, 2

## Res_12.1K_0603_1%_1/10W
designator R?, comment value 12.1K  Power: 1/10W  Package: 0603  Tolerance: 1%  (hidden comment: 0603WAF1212T5E)
RES 12.1K OHM 1% 1/10W 0603; ComponentLink1Description: CXT; ComponentLink1URL: https://linhkien.cxtvn.com/7742-dien-tro-0603-1-thong-so-tu-1k-den-91k.html; ComponentLink2Description: MOUSER; ComponentLink2URL: https://www.mouser.vn/ProductDetail/Royalohm/0603WAF1212T5E?qs=e8oIoAS2J1QOf5tSbOLY6A%3D%3D
footprint RESC1608X05N (Chip Resistor, 2-Leads, Body 1.60x0.80mm (0603))
pins: 1, 2

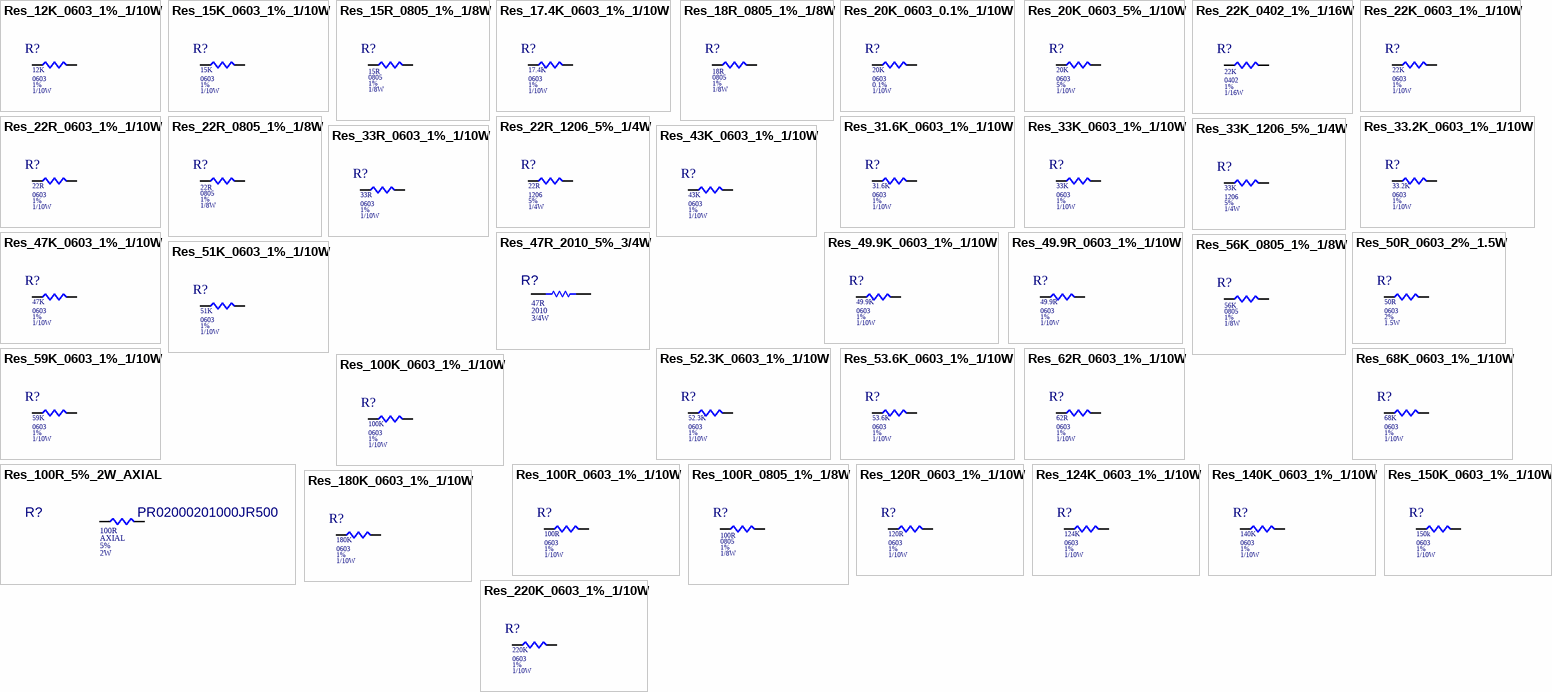
[diagram p9: symbols Res_12K_0603_1%_1/10W to Res_220K_0603_1%_1/10W]

## Res_12K_0603_1%_1/10W
designator R?, comment value 12K  Power: 1/10W  Package: 0603  Tolerance: 1%  (hidden comment: RMCF0603FT12K0)
RES 12K OHM 1% 1/10W 0603; ComponentLink1Description: CXT; ComponentLink1URL: https://linhkien.cxtvn.com/4536-dien-tro-0603-1-thong-so-tu-1k-den-91k.html; ComponentLink2Description: DIGIKEY; ComponentLink2URL: https://www.digikey.com/en/products/detail/stackpole-electronics-inc/RMCF0603FT12K0/1761297
footprint RESC1608X05N (Chip Resistor, 2-Leads, Body 1.60x0.80mm (0603))
pins: 1, 2

## Res_15K_0603_1%_1/10W
designator R?, comment value 15K  Power: 1/10W  Pakage: 0603  Tolerance: 1%  (hidden comment: RMCF0603FT15K0)
RES 15K OHM 1% 1/10W 0603; ComponentLink1Description: CXT; ComponentLink1URL: https://linhkien.cxtvn.com/7715-dien-tro-0603-1-thong-so-tu-1k-den-91k.html; ComponentLink2Description: DIGIKEY; ComponentLink2URL: https://www.digikey.bg/en/products/detail/stackpole-electronics-inc/RMCF0603FT15K0/1760774
footprint RESC1608X05N (Chip Resistor, 2-Leads, Body 1.60x0.80mm (0603))
pins: 1, 2

## Res_15R_0805_1%_1/8W
designator R?, comment value 15R  Tolerance: 1%  Power: 1/8W  Package: 0805  (hidden comment: RC0805FR-0715RL)
RES 15 OHM 1% 1/8W 0805; ComponentLink1Description: LKCL; ComponentLink1URL: https://linhkien.cxtvn.com/11196-dien-tro-0805-1-thong-so-tu-0r-den-910r.html; ComponentLink2Description: DIGIKEY; ComponentLink2URL: https://www.digikey.bg/en/products/detail/yageo/RC0805FR-0715RL/727607?s=N4IgTCBcDaIEoGEAMAOJBWAYnAtEg7AIzpwAyIAugL5A
footprint Res_0805
pins: 1, 2

## Res_17.4K_0603_1%_1/10W
designator R?, comment value 17.4K  Power: 1/10W  Package: 0603  Tolerance: 1%  (hidden comment: ERJ-3EKF1742V)
RES SMD 17.4K OHM 1% 1/10W 0603; ComponentLink1Description: CXT; ComponentLink1URL: https://linhkien.cxtvn.com/7311-dien-tro-0603-1-thong-so-tu-1k-den-91k.html; ComponentLink2Description: DIGIKEY; ComponentLink2URL: https://www.digikey.com/en/products/detail/panasonic-electronic-components/ERJ-3EKF1742V/196159
footprint RESC1608X05N (Chip Resistor, 2-Leads, Body 1.60x0.80mm (0603))
pins: 1, 2

## Res_18R_0805_1%_1/8W
designator R?, comment value 18R  Tolerance: 1%  Power: 1/8W  Package: 0805  (hidden comment: RC0805FR-0718RL)
RES 18 OHM 1% 1/8W 0805; ComponentLink1Description: LKCL; ComponentLink1URL: https://linhkienchatluong.vn/dien-tro-dan-0805-110w-1/dien-tro-dan-0805-18r-1-50c_sp837_ct5301.aspx; ComponentLink2Description: DIGIKEY; ComponentLink2URL: https://www.digikey.bg/en/products/detail/yageo/RC0805FR-0718RL/727643?s=N4IgTCBcDaIEoGEAMAOJBWAYnAtEg7AIwpwAyIAugL5A
footprint Res_0805
pins: 1, 2

## Res_20K_0603_0.1%_1/10W
designator R?, comment value 20K  Power: 1/10W  Pakage: 0603  Tolerance: 0.1%  (hidden comment: RT0603BRD0720KL)
RES SMD 20K OHM 0.1% 1/10W 0603; ComponentLink1Description: DIGIKEY; ComponentLink1URL: https://www.digikey.bg/en/products/detail/yageo/RT0603BRD0720KL/1072350?s=N4IgTCBcDaIEoBUAMA2JBmAQnAIkg7GEgNIAyIAugL5A
footprint RESC1608X05N (Chip Resistor, 2-Leads, Body 1.60x0.80mm (0603))
pins: 1, 2

## Res_20K_0603_5%_1/10W
designator R?, comment value 20K  Power: 1/10W  Package: 0603  Tolerance: 5%  (hidden comment: CRCW060320K0JNEAC)
RES 20K OHM 5% 1/10W 0603; ComponentLink2Description: CXT; ComponentLink2URL: https://linhkien.cxtvn.com/5973-dien-tro-0603-1-thong-so-tu-1k-den-91k.html; ComponentLink3Description: DIGIKEY; ComponentLink3URL: https://www.digikey.bg/en/products/detail/vishay-dale/CRCW060320K0JNEAC/7925426?s=N4IgTCBcDaIMICU4HUAMA2VBmMqDSqAUgHICiAgnCALoC%2BQA
footprint RESC1608X05N (Chip Resistor, 2-Leads, Body 1.60x0.80mm (0603))
pins: 1, 2

## Res_22K_0402_1%_1/16W
designator R?, comment value 22K  Power: 1/16W  Tolerance: 1%  Pakage: 0402  (hidden comment: RC0402FR-0722KL)
RES 22K OHM 1% 1/16W 0402; ComponentLink1Description: CXT; ComponentLink1URL: https://linhkien.cxtvn.com/7738-dien-tro-0402-1-thong-so-tu-1k-den-91k.html; ComponentLink2Description: DIGIKEY; ComponentLink2URL: https://www.digikey.bg/en/products/detail/yageo/RC0402FR-0722KL/726561?s=N4IgTCBcDaIEoGEAMAWJYBicC0SDsYYA0gDIgC6AvkA
footprint RES_0402
pins: 1, 2

## Res_22K_0603_1%_1/10W
designator R?, comment value 22K  Power: 1/10W  Package: 0603  Tolerance: 1%  (hidden comment: RK73H1JTTD2202F)
RES 22K OHM 1% 1/10W 0603; ComponentLink2Description: CXT; ComponentLink2URL: https://linhkien.cxtvn.com/3650-dien-tro-0603-1-thong-so-tu-1k-den-91k.html; ComponentLink3Description: DIGIKEY; ComponentLink3URL: https://www.digikey.bg/en/products/detail/koa-speer-electronics-inc/RK73H1JTTD2202F/9844886
footprint RESC1608X05N (Chip Resistor, 2-Leads, Body 1.60x0.80mm (0603))
pins: 1, 2

## Res_22R_0603_1%_1/10W
designator R?, comment value 22R  Power: 1/10W  Pakage: 0603  Tolerance: 1%  (hidden comment: RMCF0603FT22R0)
RES 22 OHM 1% 1/10W 0603; ComponentLink1Description: CXT; ComponentLink1URL: https://linhkien.cxtvn.com/4435-dien-tro-0603-1-thong-so-tu-0r-den-910r.html; ComponentLink2Description: DIGIKEY; ComponentLink2URL: https://www.digikey.bg/en/products/detail/stackpole-electronics-inc/RMCF0603FT22R0/1760726
footprint RESC1608X05N (Chip Resistor, 2-Leads, Body 1.60x0.80mm (0603))
pins: 1, 2

## Res_22R_0805_1%_1/8W
designator R?, comment value 22R  Tolerance: 1%  Power: 1/8W  Package: 0805  (hidden comment: RMCF0805FT22R0)
RES 22 OHM 1% 1/8W 0805; ComponentLink1Description: BLK; ComponentLink1URL: https://banlinhkien.com/tro-0805-1-22r-50c-p20821304.html; ComponentLink2Description: DIGIKEY; ComponentLink2URL: https://www.digikey.com/en/products/detail/stackpole-electronics-inc/RMCF0805FT22R0/1712862
footprint Res_0805
pins: 1, 2

## Res_22R_1206_5%_1/4W
designator R?, comment value 22R  Power: 1/4W  Pakage: 1206  Tolerance: 5%  (hidden comment: RC1206JR-0722RL)
RES 22 OHM 5% 1/4W 1206; ComponentLink1Description: CXT; ComponentLink1URL: https://linhkien.cxtvn.com/4214-dien-tro-1206-1-thong-so-tu-0r-den-910r.html; ComponentLink2Description: DIGIKEY; ComponentLink2URL: https://www.digikey.bg/en/products/detail/yageo/RC1206JR-0722RL/729253
footprint Res_1206
pins: 1, 2